# Altium integrated library Elantec Video Generator Circuit.IntLib: 4 symbols
Pins are listed as number, name and electrical type; pins without a type are passive.

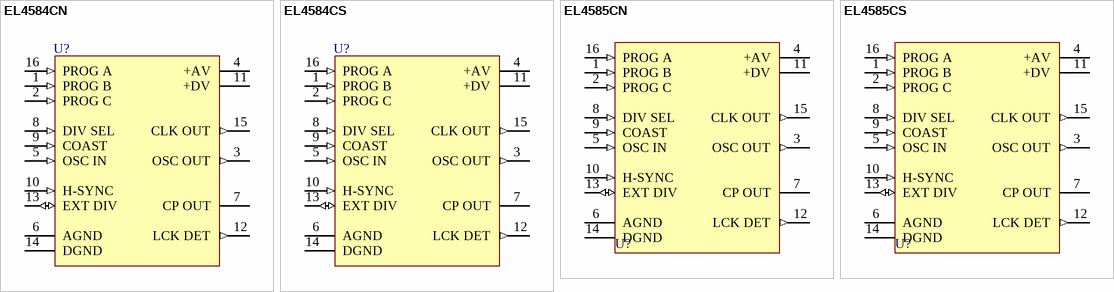
[diagram p0: symbols EL4584CN to EL4585CS]

## EL4584CN
designator U?
Horizontal Genlock, 4 Fsc; Note: Pin 4 is Analog positive supply and Pin 6 is Analog ground for oscillator, PLL circuits; Pin 11 is positive supply and Pin 14 is ground for digital, I/O circuits;; Published: 8-Jun-2000; LatestRevisionDate: 04-Mar-2005; LatestRevisionNote: Stylized 3D Model Added.; DatasheetVersion: Feb-1995; PackageReference: MDP0031-16; Publisher: Altium Limited; PackageDescription: DIP; 16 Leads; Row Spacing 7.62 mm; Pitch 2.54 mm; Code_JEDEC: MS-001-BB; ComponentLink1Description: Manufacturer Link; ComponentLink1URL: http://www.intersil.com/cda/home/; ComponentLink2Description: Datasheet; ComponentLink2URL: http://www.intersil.com/data/fn/fn7174.pdf
footprint MDP0031-16 (DIP; 16 Leads; Row Spacing 7.62 mm; Pitch 2.54 mm)
3D model MDP0031-16 (DIP; 16 Leads; Row Spacing 7.62 mm; Pitch 2.54 mm)
pins: 1 PROG B (in), 2 PROG C (in), 3 OSC OUT (out), 4 +AV (power), 5 OSC IN (in), 6 AGND (power), 7 CP OUT (hiz), 8 DIV SEL (in), 9 COAST (in), 10 H-SYNC (in), 11 +DV (power), 12 LCK DET (out), 13 EXT DIV (io), 14 DGND (power), 15 CLK OUT (out), 16 PROG A (in)

## EL4584CS
designator U?
Horizontal Genlock, 4 Fsc; Note: Pin 4 is Analog positive supply and Pin 6 is Analog ground for oscillator, PLL circuits; Pin 11 is positive supply and Pin 14 is ground for digital, I/O circuits;; Published: 8-Jun-2000; LatestRevisionDate: 13-Apr-2006; LatestRevisionNote: IPC-7351 Footprint Added.; DatasheetVersion: Feb-1995; PackageReference: SO-16; Publisher: Altium Limited; PackageDescription: 16-Pin Small Outline Integrated Circuit 1.27 mm Pitch; ComponentLink1Description: Manufacturer Link; ComponentLink1URL: http://www.intersil.com/cda/home/; ComponentLink2Description: Datasheet; ComponentLink2URL: http://www.intersil.com/data/fn/fn7174.pdf
footprint SO-16_N (SOIC, 16-Leads, Body 9.9x3.9mm, Pitch 1.27mm, IPC Medium Density)
footprint SO-16_L (SOIC, 16-Leads, Body 9.9x3.9mm, Pitch 1.27mm, IPC High Density)
footprint SO-16_M (SOIC, 16-Leads, Body 9.9x3.9mm, Pitch 1.27mm, IPC Low Density)
3D model SO-16 (16-Pin Small Outline Integrated Circuit 1.27 mm Pitch)
pins: 1 PROG B (in), 2 PROG C (in), 3 OSC OUT (out), 4 +AV (power), 5 OSC IN (in), 6 AGND (power), 7 CP OUT (hiz), 8 DIV SEL (in), 9 COAST (in), 10 H-SYNC (in), 11 +DV (power), 12 LCK DET (out), 13 EXT DIV (io), 14 DGND (power), 15 CLK OUT (out), 16 PROG A (in)

## EL4585CN
designator U?
Horizontal Genlock, 8 Fsc; Note: Pin 4 is Analog positive supply and Pin 6 is Analog ground for oscillator, PLL circuits; Pin 11 is positive supply and Pin 14 is ground for digital, I/O circuits;; Published: 8-Jun-2000; LatestRevisionDate: 04-Mar-2005; LatestRevisionNote: Stylized 3D Model Added.; DatasheetVersion: Mar-1996; PackageReference: MDP0031-16; Publisher: Altium Limited; PackageDescription: DIP; 16 Leads; Row Spacing 7.62 mm; Pitch 2.54 mm; Code_JEDEC: MS-001-BB; ComponentLink1Description: Manufacturer Link; ComponentLink1URL: http://www.intersil.com/cda/home/; ComponentLink2Description: Datasheet; ComponentLink2URL: http://www.intersil.com/data/fn/fn7175.pdf
footprint MDP0031-16 (DIP; 16 Leads; Row Spacing 7.62 mm; Pitch 2.54 mm)
3D model MDP0031-16 (DIP; 16 Leads; Row Spacing 7.62 mm; Pitch 2.54 mm)
pins: 1 PROG B (in), 2 PROG C (in), 3 OSC OUT (out), 4 +AV (power), 5 OSC IN (in), 6 AGND (power), 7 CP OUT (hiz), 8 DIV SEL (in), 9 COAST (in), 10 H-SYNC (in), 11 +DV (power), 12 LCK DET (out), 13 EXT DIV (io), 14 DGND (power), 15 CLK OUT (out), 16 PROG A (in)

## EL4585CS
designator U?
Horizontal Genlock, 8 Fsc; Note: Pin 4 is Analog positive supply and Pin 6 is Analog ground for oscillator, PLL circuits; Pin 11 is positive supply and Pin 14 is ground for digital, I/O circuits;; Published: 8-Jun-2000; LatestRevisionDate: 13-Apr-2006; LatestRevisionNote: IPC-7351 Footprint Added.; DatasheetVersion: Mar-1996; PackageReference: SO-16; Publisher: Altium Limited; PackageDescription: 16-Pin Small Outline Integrated Circuit 1.27 mm Pitch; ComponentLink1Description: Manufacturer Link; ComponentLink1URL: http://www.intersil.com/cda/home/; ComponentLink2Description: Datasheet; ComponentLink2URL: http://www.intersil.com/data/fn/fn7175.pdf
footprint SO-16_N (SOIC, 16-Leads, Body 9.9x3.9mm, Pitch 1.27mm, IPC Medium Density)
footprint SO-16_L (SOIC, 16-Leads, Body 9.9x3.9mm, Pitch 1.27mm, IPC High Density)
footprint SO-16_M (SOIC, 16-Leads, Body 9.9x3.9mm, Pitch 1.27mm, IPC Low Density)
3D model SO-16 (16-Pin Small Outline Integrated Circuit 1.27 mm Pitch)
pins: 1 PROG B (in), 2 PROG C (in), 3 OSC OUT (out), 4 +AV (power), 5 OSC IN (in), 6 AGND (power), 7 CP OUT (hiz), 8 DIV SEL (in), 9 COAST (in), 10 H-SYNC (in), 11 +DV (power), 12 LCK DET (out), 13 EXT DIV (io), 14 DGND (power), 15 CLK OUT (out), 16 PROG A (in)